# Altium footprint library J1x2.PcbLib: 1 footprints
Each footprint in its own frame and in the unit in brackets; x right, y up, seen from the top. Pads: shape width x height; smd on the part's side, far side on the other; paste and mask are expansions set on the pad; w line width, h text height; cw(c..) or ccw(c..) is an arc to the next point about the centre after c.
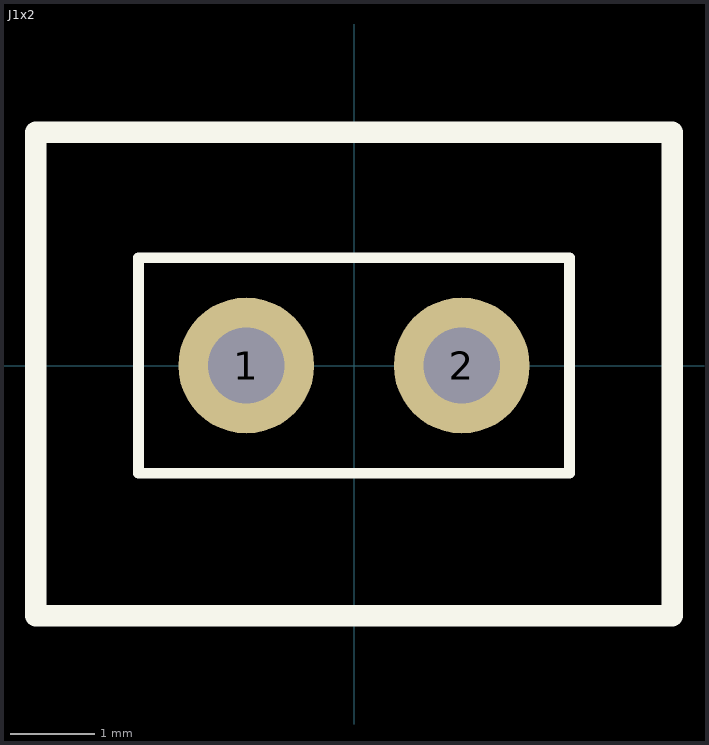
[diagram p0: the footprint, top view; thin cyan lines are the x and y axes]

## J1x2 [mm]
pads (2):
  round 1.6 hole 0.9: 1(-1.27,0) 2(1.27,0)
Top Overlay:
  lines w0.127: -2.54,-1.27 2.54,-1.27 2.54,1.27 -2.54,1.27 -2.54,-1.27
  lines w0.254: -3.75,-2.95 -3.75,2.75 3.75,2.75 3.75,-2.95 -3.75,-2.95
3D body "HN-1x2.STEP": height 10.1, standoff -1.5, extent -2.54,-1.27 2.54,1.27